# EAGLE library part POLOLU-BRIDGE (library Library)
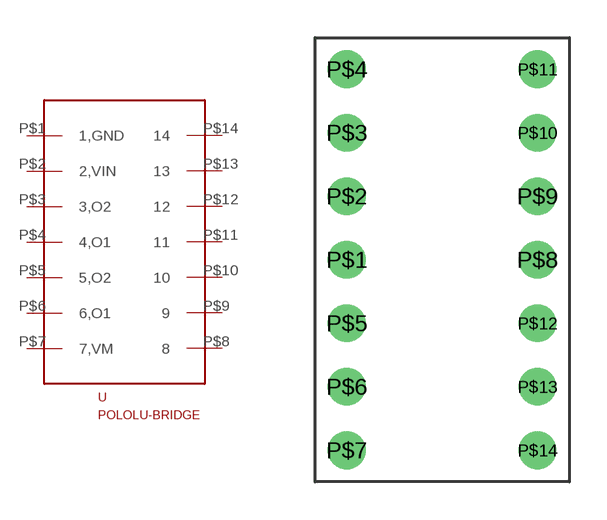
[diagram p13: symbol with the pads of POLOLU-BRIDGE; footprint POLOLU-BRIDGE]

Designator prefix -

## POLOLU-BRIDGE  [POLOLU-BRIDGE]
P$1  1,GND
P$2  2,VIN
P$3  3,O2
P$4  4,O1
P$5  5,O2
P$6  6,O1
P$7  7,VM
P$8  8
P$9  9
P$10  10
P$11  11
P$12  12
P$13  13
P$14  14

## Footprint POLOLU-BRIDGE (pad centres in mm)
drill 1: P$1 -3.81,0; P$2 -3.81,2.54; P$3 -3.81,5.08; P$4 -3.81,7.62; P$5 -3.81,-2.54; P$6 -3.81,-5.08; P$7 -3.81,-7.62; P$8 3.81,0; P$9 3.81,2.54; P$10 3.81,5.08; P$11 3.81,7.62; P$12 3.81,-2.54; P$13 3.81,-5.08; P$14 3.81,-7.62